# Altium schematic symbol library mySchlib.SchLib: 124 symbols
Pins are listed as number, name and electrical type; pins without a type are passive.

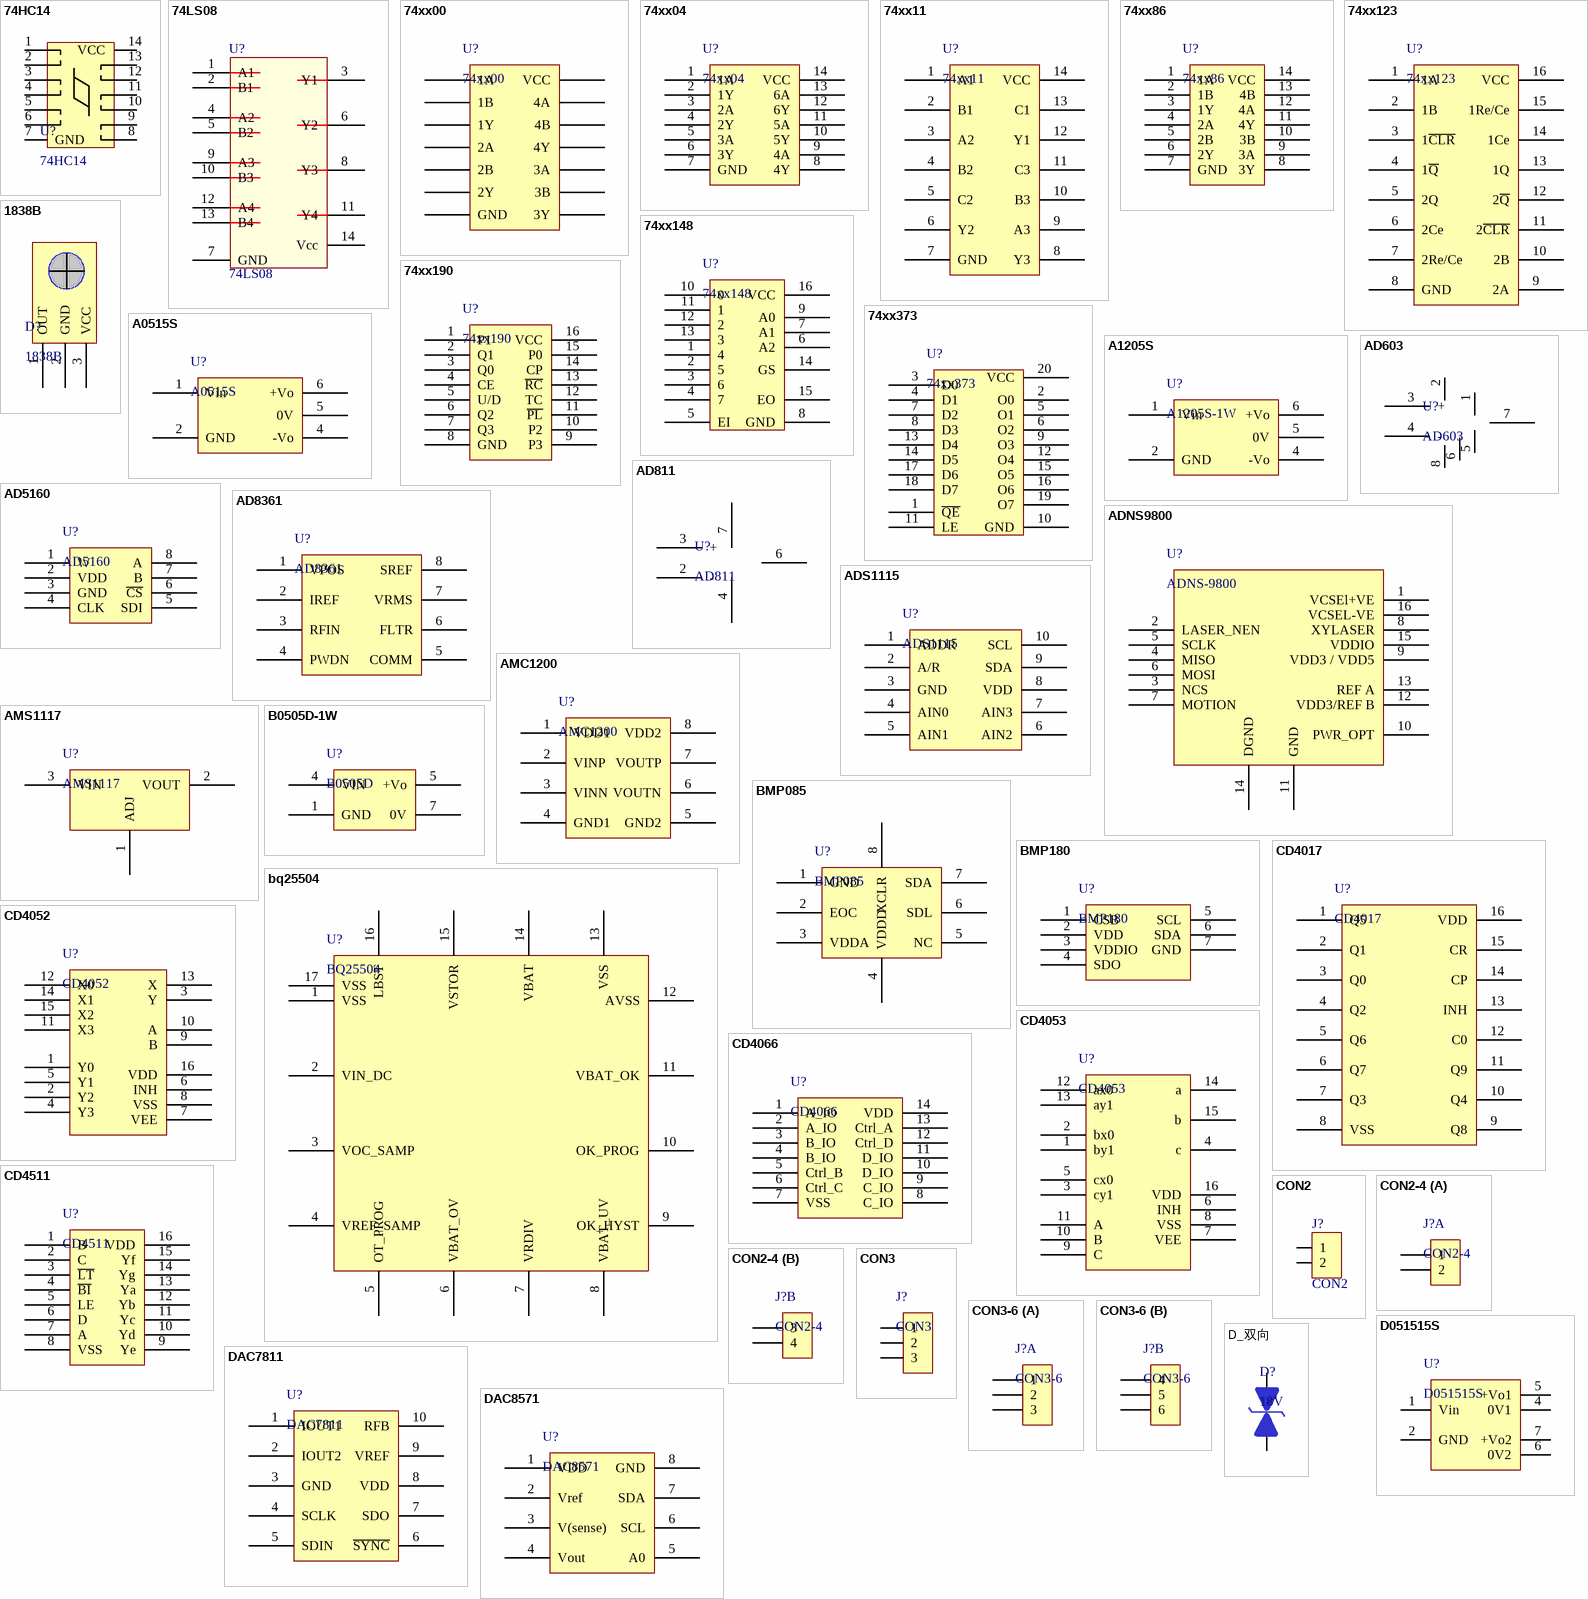
[diagram p0: symbols 74HC14 to DAC8571]

## 74HC14
designator U?
footprint DIP14
pins: 1, 2, 3, 4, 5, 6, 7 GND, 8, 9, 10, 11, 12, 13, 14 VCC

## 74LS08
designator U?
footprint SO-14
pins: 1 A1, 2 B1, 3 Y1, 4 A2, 5 B2, 6 Y2, 7 GND, 8 Y3, 9 A3, 10 B3, 11 Y4, 12 A4, 13 B4, 14 Vcc

## 74xx00
designator U?
footprint DIP14
pins: 1 1A, 2 1B, 3 1Y, 4 2A, 5 2B, 6 2Y, 7 GND, 8 3Y, 9 3B, 10 3A, 11 4Y, 12 4B, 13 4A, 14 VCC

## 74xx04
designator U?
footprint DIP14
pins: 1 1A, 2 1Y, 3 2A, 4 2Y, 5 3A, 6 3Y, 7 GND, 8 4Y, 9 4A, 10 5Y, 11 5A, 12 6Y, 13 6A, 14 VCC

## 74xx11
designator U?
footprint DIP14
pins: 1 A1, 2 B1, 3 A2, 4 B2, 5 C2, 6 Y2, 7 GND, 8 Y3, 9 A3, 10 B3, 11 C3, 12 Y1, 13 C1, 14 VCC

## 74xx86
designator U?
footprint DIP14
pins: 1 1A, 2 1B, 3 1Y, 4 2A, 5 2B, 6 2Y, 7 GND, 8 3Y, 9 3A, 10 3B, 11 4Y, 12 4A, 13 4B, 14 VCC

## 74xx123
designator U?
footprint DIP16
pins: 1 1A, 2 1B, 3 1~{CLR}, 4 1~{Q}, 5 2Q, 6 2Ce, 7 2Re/Ce, 8 GND, 9 2A, 10 2B, 11 2~{CLR}, 12 2~{Q}, 13 1Q, 14 1Ce, 15 1Re/Ce, 16 VCC

## 74xx148
designator U?
footprint DIP16
pins: 1 4, 2 5, 3 6, 4 7, 5 EI, 6 A2, 7 A1, 8 GND, 9 A0, 10 0, 11 1, 12 2, 13 3, 14 GS, 15 EO, 16 VCC

## 74xx190
designator U?
footprint DIP16
pins: 1 P1, 2 Q1, 3 Q0, 4 CE, 5 U/D, 6 Q2, 7 Q3, 8 GND, 9 P3, 10 P2, 11 ~{PL}, 12 TC, 13 ~{RC}, 14 CP, 15 P0, 16 VCC

## 74xx373
designator U?
footprint DIP20
pins: 1 ~{QE}, 2 O0, 3 D0, 4 D1, 5 O1, 6 O2, 7 D2, 8 D3, 9 O3, 10 GND, 11 LE, 12 O4, 13 D4, 14 D5, 15 O5, 16 O6, 17 D6, 18 D7, 19 O7, 20 VCC

## 1838B
designator D?
pins: 1 OUT, 2 GND, 3 VCC

## A0515S
designator U?
pins: 1 Vin, 2 GND, 4 -Vo, 5 0V, 6 +Vo

## A1205S
designator U?, comment A1205S-1W
pins: 1 Vin, 2 GND, 4 -Vo, 5 0V, 6 +Vo

## AD603
designator U?
pins: 1, 2, 3 +, 4 -, 5, 6, 7, 8

## AD811
designator U?
footprint DIP8
pins: 2 -, 3 +, 4, 6, 7

## AD5160
designator U?
pins: 1 W, 2 VDD, 3 GND, 4 CLK, 5 SDI, 6 ~{CS}, 7 B, 8 A

## AD8361
designator U?
pins: 1 VPOS, 2 IREF, 3 RFIN, 4 PWDN, 5 COMM, 6 FLTR, 7 VRMS, 8 SREF

## ADNS9800
designator U?, comment ADNS-9800
pins: 1 VCSEl+VE, 2 LASER_NEN, 3 NCS, 4 MISO, 5 SCLK, 6 MOSI, 7 MOTION, 8 XYLASER, 9 VDD3 / VDD5, 10 PWR_OPT, 11 GND, 12 VDD3/REF B, 13 REF A, 14 DGND, 15 VDDIO, 16 VCSEL-VE

## ADS1115
designator U?
pins: 1 ADDR, 2 A/R, 3 GND, 4 AIN0, 5 AIN1, 6 AIN2, 7 AIN3, 8 VDD, 9 SDA, 10 SCL

## AMC1200
designator U?
pins: 1 VDD1, 2 VINP, 3 VINN, 4 GND1, 5 GND2, 6 VOUTN, 7 VOUTP, 8 VDD2

## AMS1117
designator U?
pins: 1 ADJ, 2 VOUT, 3 VIN

## B0505D-1W
designator U?, comment B0505D
footprint B0505D-1W
pins: 1 GND, 4 VIN, 5 +Vo, 7 0V

## BMP085
designator U?
pins: 1 GND, 2 EOC, 3 VDDA, 4 VDDD, 5 NC, 6 SDL, 7 SDA, 8 XCLR

## BMP180
designator U?
pins: 1 CSB, 2 VDD, 3 VDDIO, 4 SDO, 5 SCL, 6 SDA, 7 GND

## bq25504
designator U?, comment BQ25504
pins: 1 VSS, 2 VIN_DC, 3 VOC_SAMP, 4 VREF_SAMP, 5 OT_PROG, 6 VBAT_OV, 7 VRDIV, 8 VBAT_UV, 9 OK_HYST, 10 OK_PROG, 11 VBAT_OK, 12 AVSS, 13 VSS, 14 VBAT, 15 VSTOR, 16 LBST, 17 VSS

## CD4017
designator U?
pins: 1 Q5, 2 Q1, 3 Q0, 4 Q2, 5 Q6, 6 Q7, 7 Q3, 8 VSS, 9 Q8, 10 Q4, 11 Q9, 12 C0, 13 INH, 14 CP, 15 CR, 16 VDD

## CD4052
designator U?
pins: 1 Y0, 2 Y2, 3 Y, 4 Y3, 5 Y1, 6 INH, 7 VEE, 8 VSS, 9 B, 10 A, 11 X3, 12 X0, 13 X, 14 X1, 15 X2, 16 VDD

## CD4053
designator U?
pins: 1 by1, 2 bx0, 3 cy1, 4 c, 5 cx0, 6 INH, 7 VEE, 8 VSS, 9 C, 10 B, 11 A, 12 ax0, 13 ay1, 14 a, 15 b, 16 VDD

## CD4066
designator U?
footprint DIP14
pins: 1 A_IO, 2 A_IO, 3 B_IO, 4 B_IO, 5 Ctrl_B, 6 Ctrl_C, 7 VSS, 8 C_IO, 9 C_IO, 10 D_IO, 11 D_IO, 12 Ctrl_D, 13 Ctrl_A, 14 VDD

## CD4511
designator U?
footprint DIP8
pins: 1 B, 2 C, 3 ~{LT}, 4 ~{BI}, 5 LE, 6 D, 7 A, 8 VSS, 9 Ye, 10 Yd, 11 Yc, 12 Yb, 13 Ya, 14 Yg, 15 Yf, 16 VDD

## CON2
designator J?
Connector
footprint HEADER2
pins: 1, 2
2 alternate drawings of the same symbol

## CON2-4
designator J?
footprint KF12EZR-4
part A pins: 1, 2
part B pins: 3, 4

## CON3
designator J?
pins: 1, 2, 3

## CON3-6
designator J?
footprint KF12EZR-6
part A pins: 1, 2, 3
part B pins: 4, 5, 6

## D051515S
designator U?
pins: 1 Vin, 2 GND, 4 0V1, 5 +Vo1, 6 0V2, 7 +Vo2

## D_双向
designator D?, comment 18V
pins: 1, 2

## DAC7811
designator U?
footprint DIP10
pins: 1 IOUT1, 2 IOUT2, 3 GND, 4 SCLK, 5 SDIN, 6 ~{SYNC}, 7 SDO, 8 VDD, 9 VREF, 10 RFB

## DAC8571
designator U?
pins: 1 VDD, 2 Vref, 3 V(sense), 4 Vout, 5 A0, 6 SCL, 7 SDA, 8 GND

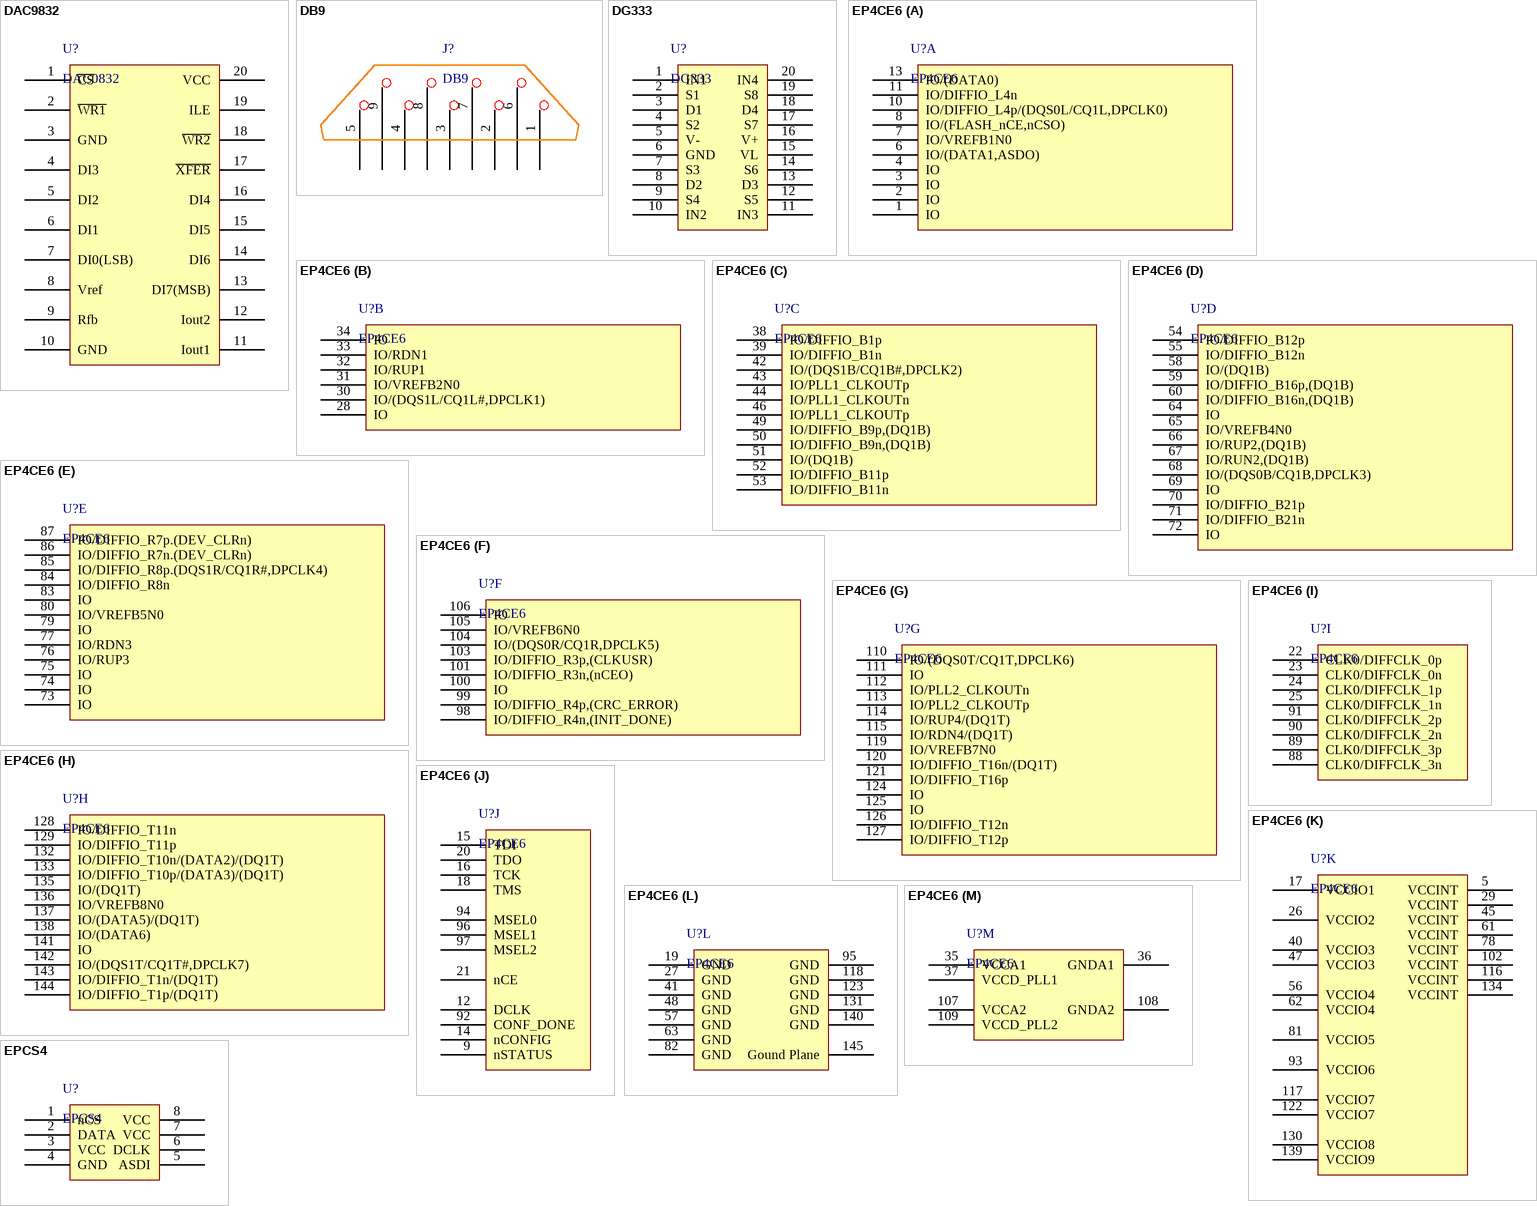
[diagram p1: symbols DAC9832 to EPCS4]

## DAC9832
designator U?, comment DAC0832
pins: 1 ~{CS}, 2 ~{WR1}, 3 GND, 4 DI3, 5 DI2, 6 DI1, 7 DI0(LSB), 8 Vref, 9 Rfb, 10 GND, 11 Iout1, 12 Iout2, 13 DI7(MSB), 14 DI6, 15 DI5, 16 DI4, 17 ~{XFER}, 18 ~{WR2}, 19 ILE, 20 VCC

## DB9
designator J?
pins: 1, 2, 3, 4, 5, 6, 7, 8, 9

## DG333
designator U?
pins: 1 IN1, 2 S1, 3 D1, 4 S2, 5 V-, 6 GND, 7 S3, 8 D2, 9 S4, 10 IN2, 11 IN3, 12 S5, 13 D3, 14 S6, 15 VL, 16 V+, 17 S7, 18 D4, 19 S8, 20 IN4

## EP4CE6
designator U?
footprint LQFP144 (TSQFP, 144-Leads, Body 22.2x22.2mm (max), Pitch 0.50mm,)
part A pins: 1 IO, 2 IO, 3 IO, 4 IO, 6 IO/(DATA1,ASDO), 7 IO/VREFB1N0, 8 IO/(FLASH_nCE,nCSO), 10 IO/DIFFIO_L4p/(DQS0L/CQ1L,DPCLK0), 11 IO/DIFFIO_L4n, 13 IO/(DATA0)
part B pins: 28 IO, 30 IO/(DQS1L/CQ1L#,DPCLK1), 31 IO/VREFB2N0, 32 IO/RUP1, 33 IO/RDN1, 34 IO
part C pins: 38 IO/DIFFIO_B1p, 39 IO/DIFFIO_B1n, 42 IO/(DQS1B/CQ1B#,DPCLK2), 43 IO/PLL1_CLKOUTp, 44 IO/PLL1_CLKOUTn, 46 IO/PLL1_CLKOUTp, 49 IO/DIFFIO_B9p,(DQ1B), 50 IO/DIFFIO_B9n,(DQ1B), 51 IO/(DQ1B), 52 IO/DIFFIO_B11p, 53 IO/DIFFIO_B11n
part D pins: 54 IO/DIFFIO_B12p, 55 IO/DIFFIO_B12n, 58 IO/(DQ1B), 59 IO/DIFFIO_B16p,(DQ1B), 60 IO/DIFFIO_B16n,(DQ1B), 64 IO, 65 IO/VREFB4N0, 66 IO/RUP2,(DQ1B), 67 IO/RUN2,(DQ1B), 68 IO/(DQS0B/CQ1B,DPCLK3), 69 IO, 70 IO/DIFFIO_B21p, 71 IO/DIFFIO_B21n, 72 IO
part E pins: 73 IO, 74 IO, 75 IO, 76 IO/RUP3, 77 IO/RDN3, 79 IO, 80 IO/VREFB5N0, 83 IO, 84 IO/DIFFIO_R8n, 85 IO/DIFFIO_R8p.(DQS1R/CQ1R#,DPCLK4), 86 IO/DIFFIO_R7n.(DEV_CLRn), 87 IO/DIFFIO_R7p.(DEV_CLRn)
part F pins: 98 IO/DIFFIO_R4n,(INIT_DONE), 99 IO/DIFFIO_R4p,(CRC_ERROR), 100 IO, 101 IO/DIFFIO_R3n,(nCEO), 103 IO/DIFFIO_R3p,(CLKUSR), 104 IO/(DQS0R/CQ1R,DPCLK5), 105 IO/VREFB6N0, 106 IO
part G pins: 110 IO/(DQS0T/CQ1T,DPCLK6), 111 IO, 112 IO/PLL2_CLKOUTn, 113 IO/PLL2_CLKOUTp, 114 IO/RUP4/(DQ1T), 115 IO/RDN4/(DQ1T), 119 IO/VREFB7N0, 120 IO/DIFFIO_T16n/(DQ1T), 121 IO/DIFFIO_T16p, 124 IO, 125 IO, 126 IO/DIFFIO_T12n, 127 IO/DIFFIO_T12p
part H pins: 128 IO/DIFFIO_T11n, 129 IO/DIFFIO_T11p, 132 IO/DIFFIO_T10n/(DATA2)/(DQ1T), 133 IO/DIFFIO_T10p/(DATA3)/(DQ1T), 135 IO/(DQ1T), 136 IO/VREFB8N0, 137 IO/(DATA5)/(DQ1T), 138 IO/(DATA6), 141 IO, 142 IO/(DQS1T/CQ1T#,DPCLK7), 143 IO/DIFFIO_T1n/(DQ1T), 144 IO/DIFFIO_T1p/(DQ1T)
part I pins: 22 CLK0/DIFFCLK_0p, 23 CLK0/DIFFCLK_0n, 24 CLK0/DIFFCLK_1p, 25 CLK0/DIFFCLK_1n, 88 CLK0/DIFFCLK_3n, 89 CLK0/DIFFCLK_3p, 90 CLK0/DIFFCLK_2n, 91 CLK0/DIFFCLK_2p
part J pins: 9 nSTATUS, 12 DCLK, 14 nCONFIG, 15 TDI, 16 TCK, 18 TMS, 20 TDO, 21 nCE, 92 CONF_DONE, 94 MSEL0, 96 MSEL1, 97 MSEL2
part K pins: 5 VCCINT, 17 VCCIO1, 26 VCCIO2, 29 VCCINT, 40 VCCIO3, 45 VCCINT, 47 VCCIO3, 56 VCCIO4, 61 VCCINT, 62 VCCIO4, 78 VCCINT, 81 VCCIO5, 93 VCCIO6, 102 VCCINT, 116 VCCINT, 117 VCCIO7, 122 VCCIO7, 130 VCCIO8, 134 VCCINT, 139 VCCIO9
part L pins: 19 GND, 27 GND, 41 GND, 48 GND, 57 GND, 63 GND, 82 GND, 95 GND, 118 GND, 123 GND, 131 GND, 140 GND, 145 Gound Plane
part M pins: 35 VCCA1, 36 GNDA1, 37 VCCD_PLL1, 107 VCCA2, 108 GNDA2, 109 VCCD_PLL2

## EPCS4
designator U?
footprint SO-8
pins: 1 nCS, 2 DATA, 3 VCC, 4 GND, 5 ASDI, 6 DCLK, 7 VCC, 8 VCC

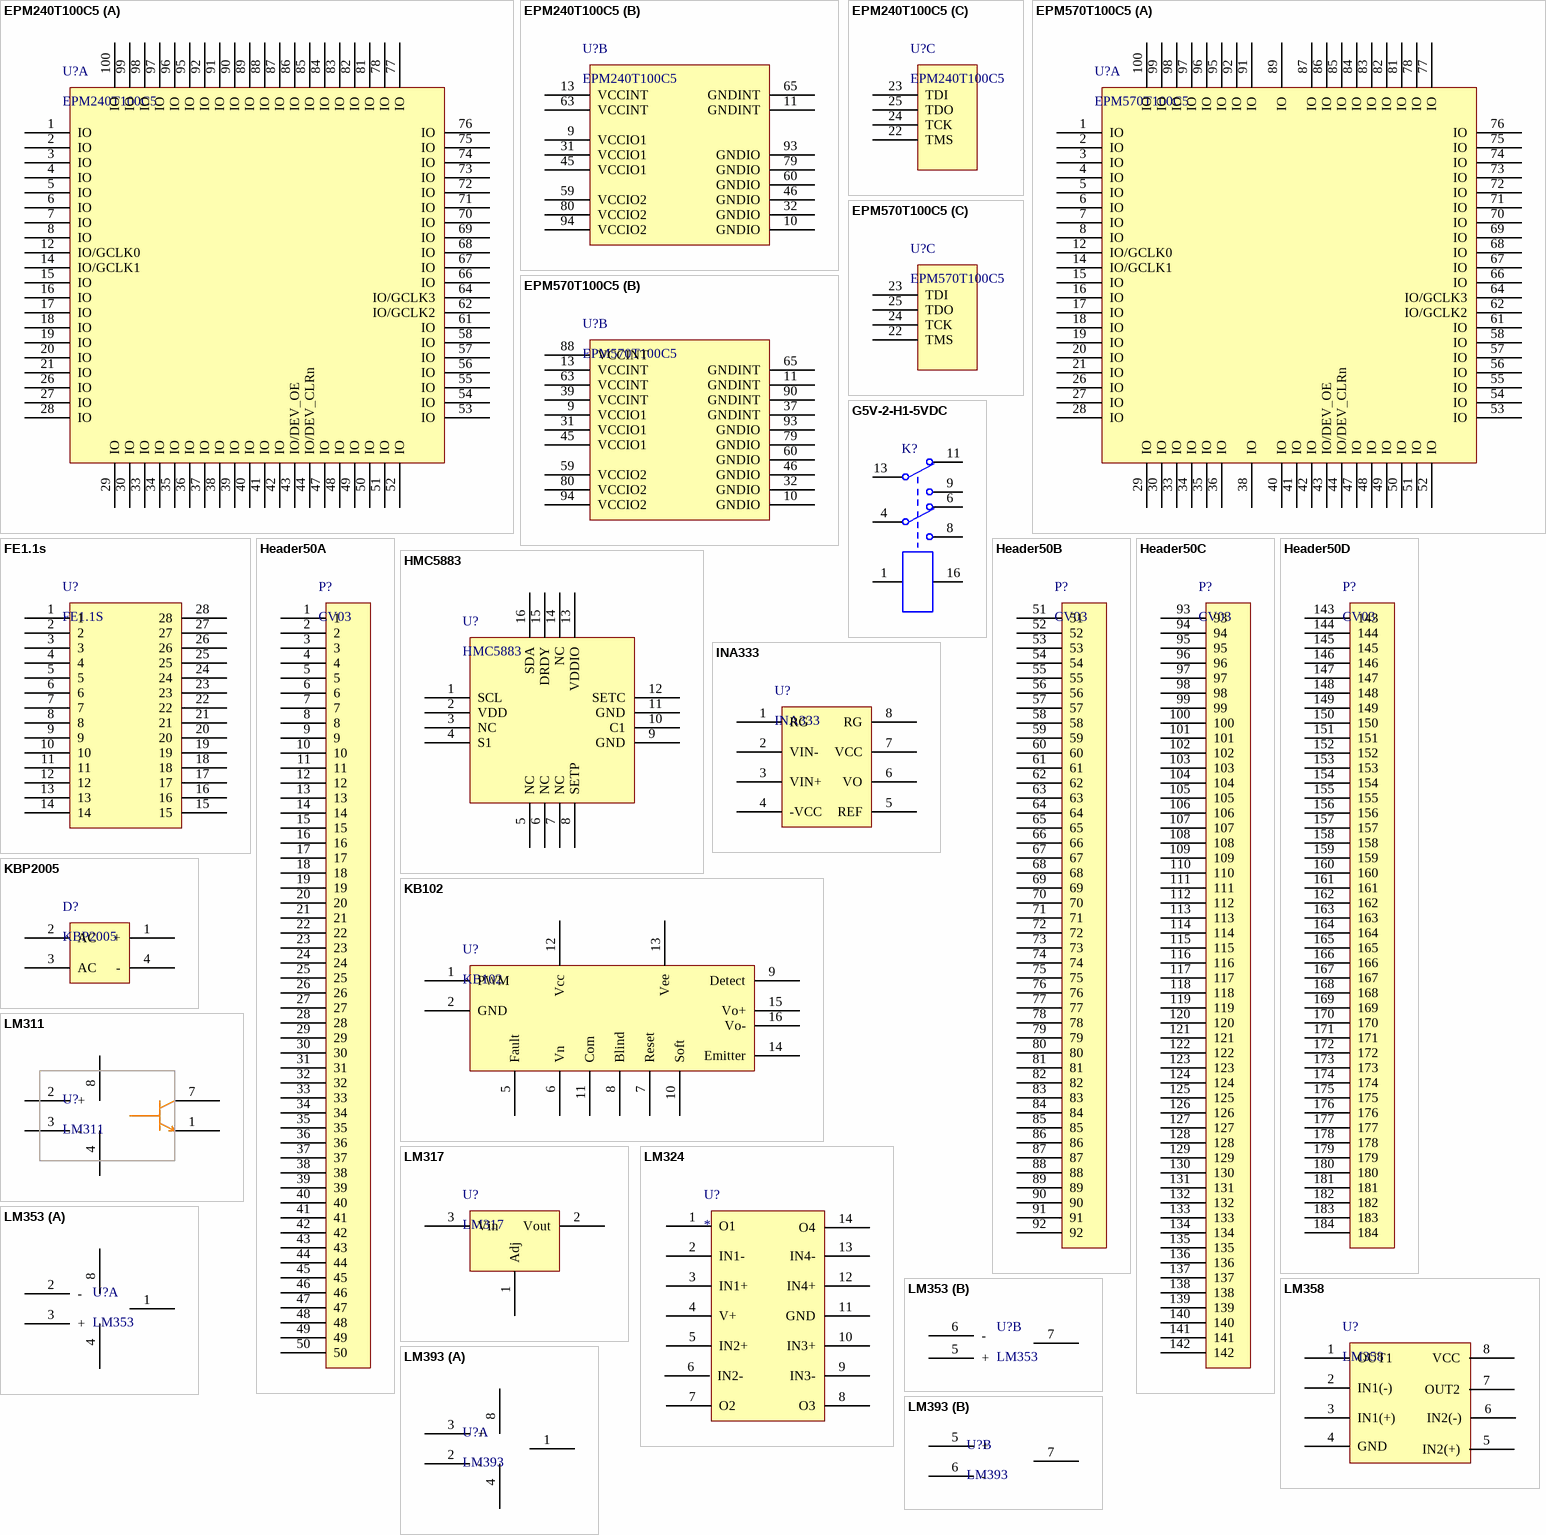
[diagram p2: symbols EPM240T100C5 to LM393]

## EPM240T100C5
designator U?
part A pins: 1 IO, 2 IO, 3 IO, 4 IO, 5 IO, 6 IO, 7 IO, 8 IO, 12 IO/GCLK0, 14 IO/GCLK1, 15 IO, 16 IO, 17 IO, 18 IO, 19 IO, 20 IO, 21 IO, 26 IO, 27 IO, 28 IO, 29 IO, 30 IO, 33 IO, 34 IO, 35 IO, 36 IO, 37 IO, 38 IO, 39 IO, 40 IO, 41 IO, 42 IO, 43 IO/DEV_OE, 44 IO/DEV_CLRn, 47 IO, 48 IO, 49 IO, 50 IO, 51 IO, 52 IO, 53 IO, 54 IO, 55 IO, 56 IO, 57 IO, 58 IO, 61 IO, 62 IO/GCLK2, 64 IO/GCLK3, 66 IO, 67 IO, 68 IO, 69 IO, 70 IO, 71 IO, 72 IO, 73 IO, 74 IO, 75 IO, 76 IO, 77 IO, 78 IO, 81 IO, 82 IO, 83 IO, 84 IO, 85 IO, 86 IO, 87 IO, 88 IO, 89 IO, 90 IO, 91 IO, 92 IO, 95 IO, 96 IO, 97 IO, 98 IO, 99 IO, 100 IO
part B pins: 9 VCCIO1, 10 GNDIO, 11 GNDINT, 13 VCCINT, 31 VCCIO1, 32 GNDIO, 45 VCCIO1, 46 GNDIO, 59 VCCIO2, 60 GNDIO, 63 VCCINT, 65 GNDINT, 79 GNDIO, 80 VCCIO2, 93 GNDIO, 94 VCCIO2
part C pins: 22 TMS, 23 TDI, 24 TCK, 25 TDO

## EPM570T100C5
designator U?
part A pins: 1 IO, 2 IO, 3 IO, 4 IO, 5 IO, 6 IO, 7 IO, 8 IO, 12 IO/GCLK0, 14 IO/GCLK1, 15 IO, 16 IO, 17 IO, 18 IO, 19 IO, 20 IO, 21 IO, 26 IO, 27 IO, 28 IO, 29 IO, 30 IO, 33 IO, 34 IO, 35 IO, 36 IO, 38 IO, 40 IO, 41 IO, 42 IO, 43 IO/DEV_OE, 44 IO/DEV_CLRn, 47 IO, 48 IO, 49 IO, 50 IO, 51 IO, 52 IO, 53 IO, 54 IO, 55 IO, 56 IO, 57 IO, 58 IO, 61 IO, 62 IO/GCLK2, 64 IO/GCLK3, 66 IO, 67 IO, 68 IO, 69 IO, 70 IO, 71 IO, 72 IO, 73 IO, 74 IO, 75 IO, 76 IO, 77 IO, 78 IO, 81 IO, 82 IO, 83 IO, 84 IO, 85 IO, 86 IO, 87 IO, 89 IO, 91 IO, 92 IO, 95 IO, 96 IO, 97 IO, 98 IO, 99 IO, 100 IO
part B pins: 9 VCCIO1, 10 GNDIO, 11 GNDINT, 13 VCCINT, 31 VCCIO1, 32 GNDIO, 37 GNDINT, 39 VCCINT, 45 VCCIO1, 46 GNDIO, 59 VCCIO2, 60 GNDIO, 63 VCCINT, 65 GNDINT, 79 GNDIO, 80 VCCIO2, 88 VCCINT, 90 GNDINT, 93 GNDIO, 94 VCCIO2
part C pins: 22 TMS, 23 TDI, 24 TCK, 25 TDO

## FE1.1s
designator U?, comment FE1.1S
pins: 1, 2, 3, 4, 5, 6, 7, 8, 9, 10, 11, 12, 13, 14, 15, 16, 17, 18, 19, 20, 21, 22, 23, 24, 25, 26, 27, 28

## G5V-2-H1-5VDC
designator K?  (value not drawn)
Published: 24-Mar-1999; LatestRevisionDate: 17-Jul-2002; LatestRevisionNote: Re-released for DXP Platform.; PackageReference: DIP-P8; Publisher: Altium Limited
pins: 1, 4, 6, 8, 9, 11, 13, 16

## Header50A
designator P?, comment CV03
pins: 1, 2, 3, 4, 5, 6, 7, 8, 9, 10, 11, 12, 13, 14, 15, 16, 17, 18, 19, 20, 21, 22, 23, 24, 25, 26, 27, 28, 29, 30, 31, 32, 33, 34, 35, 36, 37, 38, 39, 40, 41, 42, 43, 44, 45, 46, 47, 48, 49, 50

## Header50B
designator P?, comment CV03
pins: 51, 52, 53, 54, 55, 56, 57, 58, 59, 60, 61, 62, 63, 64, 65, 66, 67, 68, 69, 70, 71, 72, 73, 74, 75, 76, 77, 78, 79, 80, 81, 82, 83, 84, 85, 86, 87, 88, 89, 90, 91, 92

## Header50C
designator P?, comment CV03
pins: 93, 94, 95, 96, 97, 98, 99, 100, 101, 102, 103, 104, 105, 106, 107, 108, 109, 110, 111, 112, 113, 114, 115, 116, 117, 118, 119, 120, 121, 122, 123, 124, 125, 126, 127, 128, 129, 130, 131, 132, 133, 134, 135, 136, 137, 138, 139, 140, 141, 142

## Header50D
designator P?, comment CV03
pins: 143, 144, 145, 146, 147, 148, 149, 150, 151, 152, 153, 154, 155, 156, 157, 158, 159, 160, 161, 162, 163, 164, 165, 166, 167, 168, 169, 170, 171, 172, 173, 174, 175, 176, 177, 178, 179, 180, 181, 182, 183, 184

## HMC5883
designator U?
pins: 1 SCL, 2 VDD, 3 NC, 4 S1, 5 NC, 6 NC, 7 NC, 8 SETP, 9 GND, 10 C1, 11 GND, 12 SETC, 13 VDDIO, 14 NC, 15 DRDY, 16 SDA

## INA333
designator U?
pins: 1 RG, 2 VIN-, 3 VIN+, 4 -VCC, 5 REF, 6 VO, 7 VCC, 8 RG

## KB102
designator U?
pins: 1 PWM, 2 GND, 5 Fault, 6 Vn, 7 Reset, 8 Blind, 9 Detect, 10 Soft, 11 Com, 12 Vcc, 13 Vee, 14 Emitter, 15 Vo+, 16 Vo-

## KBP2005
designator D?
pins: 1 +, 2 AC, 3 AC, 4 -

## LM311
designator U?
footprint DIP8
pins: 1 EO, 2 +, 3 -, 4, 7 CO, 8

## LM317
designator U?
pins: 1 Adj, 2 Vout, 3 Vin

## LM324
designator U?
pins: 1 O1, 2 IN1-, 3 IN1+, 4 V+, 5 IN2+, 6 IN2-, 7 O2, 8 O3, 9 IN3-, 10 IN3+, 11 GND, 12 IN4+, 13 IN4-, 14 O4

## LM353
designator U?
footprint DIP-8 (DIP; 8 Leads; Row Spacing 7.62 mm; Pitch 2.54 mm)
part A pins: 1, 2 -, 3 +, 4, 8
part B pins: 5 +, 6 -, 7

## LM358
designator U?
footprint DIP-P8/E10
pins: 1 OUT1, 2 IN1(-), 3 IN1(+), 4 GND, 5 IN2(+), 6 IN2(-), 7 OUT2, 8 VCC

## LM393
designator U?
part A pins: 1 O, 2 -, 3 +, 4 GND, 8 VCC
part B pins: 5 +, 6 -, 7 O

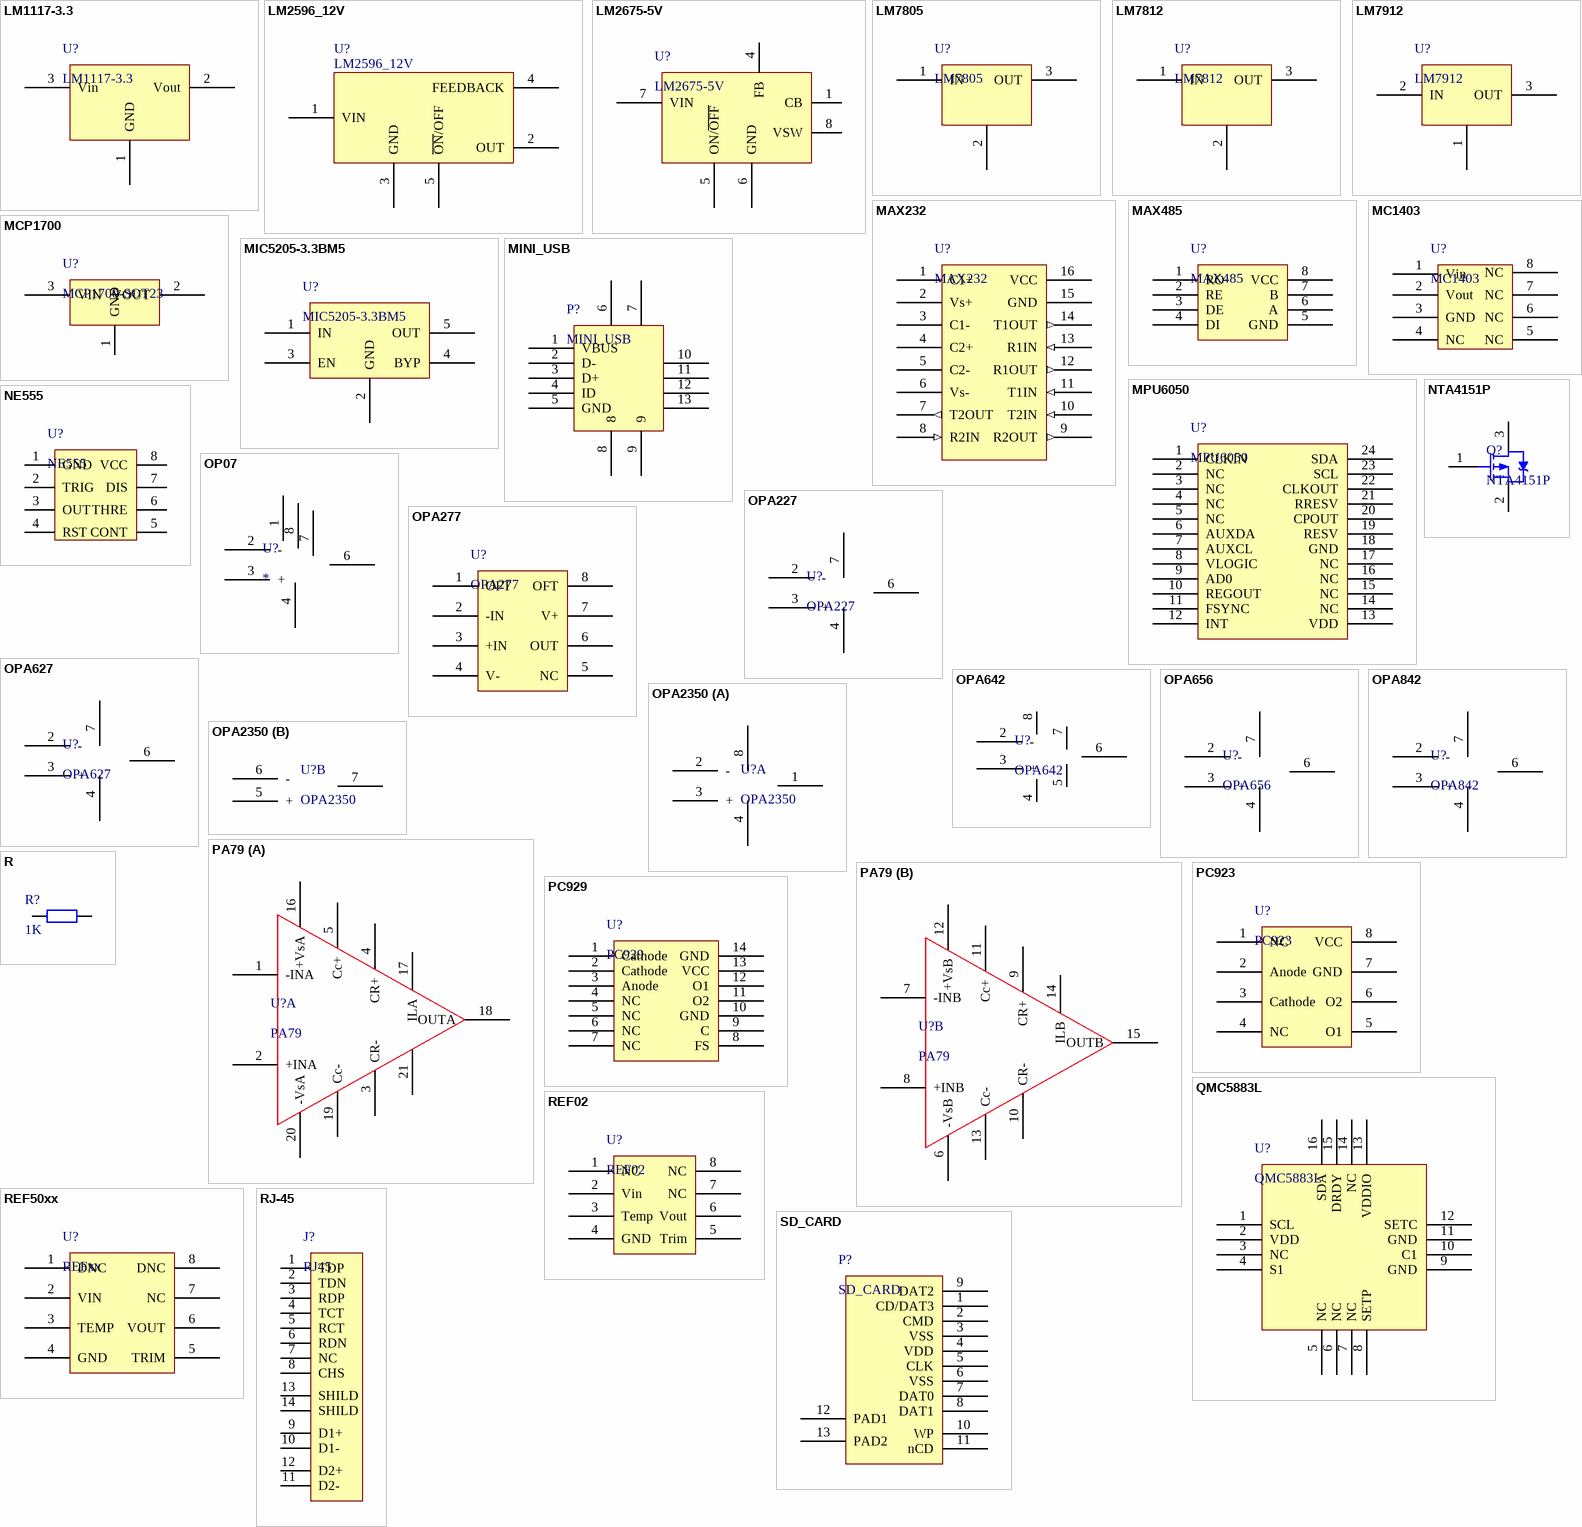
[diagram p3: symbols LM1117-3.3 to SD_CARD]

## LM1117-3.3
designator U?
pins: 1 GND, 2 Vout, 3 Vin

## LM2596_12V
designator U?
footprint TO263
pins: 1 VIN, 2 OUT, 3 GND, 4 FEEDBACK, 5 ~{ON}/OFF

## LM2675-5V
designator U?
pins: 1 CB, 4 FB, 5 ON/~{OFF}, 6 GND, 7 VIN, 8 VSW

## LM7805
designator U?
pins: 1 IN, 2 GND, 3 OUT

## LM7812
designator U?
pins: 1 IN, 2 GND, 3 OUT

## LM7912
designator U?
pins: 1 GND, 2 IN, 3 OUT

## MAX232
designator U?
pins: 1 C1+, 2 Vs+, 3 C1-, 4 C2+, 5 C2-, 6 Vs-, 7 T2OUT (out), 8 R2IN (in), 9 R2OUT (out), 10 T2IN (in), 11 T1IN (in), 12 R1OUT (out), 13 R1IN (in), 14 T1OUT (out), 15 GND, 16 VCC

## MAX485
designator U?
pins: 1 RO, 2 RE, 3 DE, 4 DI, 5 GND, 6 A, 7 B, 8 VCC

## MC1403
designator U?
pins: 1 Vin, 2 Vout, 3 GND, 4 NC, 5 NC, 6 NC, 7 NC, 8 NC

## MCP1700
designator U?, comment MCP1700-SOT23
pins: 1 GND, 2 VOUT, 3 VIN

## MIC5205-3.3BM5
designator U?
pins: 1 IN, 2 GND, 3 EN, 4 BYP, 5 OUT

## MINI_USB
designator P?
pins: 1 VBUS, 2 D-, 3 D+, 4 ID, 5 GND, 6, 7, 8, 9, 10, 11, 12, 13

## MPU6050
designator U?
pins: 1 CLKIN, 2 NC, 3 NC, 4 NC, 5 NC, 6 AUXDA, 7 AUXCL, 8 VLOGIC, 9 AD0, 10 REGOUT, 11 FSYNC, 12 INT, 13 VDD, 14 NC, 15 NC, 16 NC, 17 NC, 18 GND, 19 RESV, 20 CPOUT, 21 RRESV, 22 CLKOUT, 23 SCL, 24 SDA

## NE555
designator U?
footprint DIP8
pins: 1 GND, 2 TRIG, 3 OUT, 4 RST, 5       CONT, 6   THRE, 7       DIS, 8     VCC

## NTA4151P
designator Q?
pins: 1 G, 2 S, 3 D

## OP07
designator U?
footprint DIP8
pins: 1, 2 -, 3 +, 4, 6, 7, 8

## OPA227
designator U?
footprint SO-8
pins: 2 -, 3 +, 4 v-, 6 OUT, 7 v+

## OPA277
designator U?
footprint DIP8
pins: 1 OFT, 2 -IN, 3 +IN, 4 V-, 5 NC, 6 OUT, 7 V+, 8 OFT

## OPA627
designator U?
footprint SO-8
pins: 2 -, 3 +, 4 -Vs, 6 OUTPUT, 7 +Vs

## OPA642
designator U?
footprint DIP-P8/E10
pins: 2 -, 3 +, 4, 5 10, 6, 7 9, 8

## OPA656
designator U?
pins: 2 -, 3 +, 4 -VCC, 6, 7 VCC

## OPA842
designator U?
footprint SO-8
pins: 2 -, 3 +, 4 -Vs, 6 OUT, 7 +Vs

## OPA2350
designator U?
part A pins: 1, 2 -, 3 +, 4, 8
part B pins: 5 +, 6 -, 7

## PA79
designator U?
footprint PSOP_20
part A pins: 1 -INA, 2 +INA, 3 CR-, 4 CR+, 5 Cc+, 16 +VsA, 17 ILA, 18 OUTA, 19 Cc-, 20 -VsA, 21
part B pins: 6 -VsB, 7 -INB, 8 +INB, 9 CR+, 10 CR-, 11 Cc+, 12 +VsB, 13 Cc-, 14 ILB, 15 OUTB

## PC923
designator U?
pins: 1 NC, 2 Anode, 3 Cathode, 4 NC, 5 O1, 6 O2, 7 GND, 8 VCC

## PC929
designator U?
pins: 1 Cathode, 2 Cathode, 3 Anode, 4 NC, 5 NC, 6 NC, 7 NC, 8 FS, 9 C, 10 GND, 11 O2, 12 O1, 13 VCC, 14 GND

## QMC5883L
designator U?
pins: 1 SCL, 2 VDD, 3 NC, 4 S1, 5 NC, 6 NC, 7 NC, 8 SETP, 9 GND, 10 C1, 11 GND, 12 SETC, 13 VDDIO, 14 NC, 15 DRDY, 16 SDA

## R
designator R?, comment 1K
footprint 0805R
pins: 1, 2

## REF02
designator U?
pins: 1 NC, 2 Vin, 3 Temp, 4 GND, 5 Trim, 6 Vout, 7 NC, 8 NC

## REF50xx
designator U?, comment REFxx
pins: 1 DNC, 2 VIN, 3 TEMP, 4 GND, 5 TRIM, 6 VOUT, 7 NC, 8 DNC

## RJ-45
designator J?, comment RJ45
pins: 1 TDP, 2 TDN, 3 RDP, 4 TCT, 5 RCT, 6 RDN, 7 NC, 8 CHS, 9 D1+, 10 D1-, 11 D2-, 12 D2+, 13 SHILD, 14 SHILD

## SD_CARD
designator P?
pins: 1 CD/DAT3, 2 CMD, 3 VSS, 4 VDD, 5 CLK, 6 VSS, 7 DAT0, 8 DAT1, 9 DAT2, 10 WP, 11 nCD, 12 PAD1, 13 PAD2

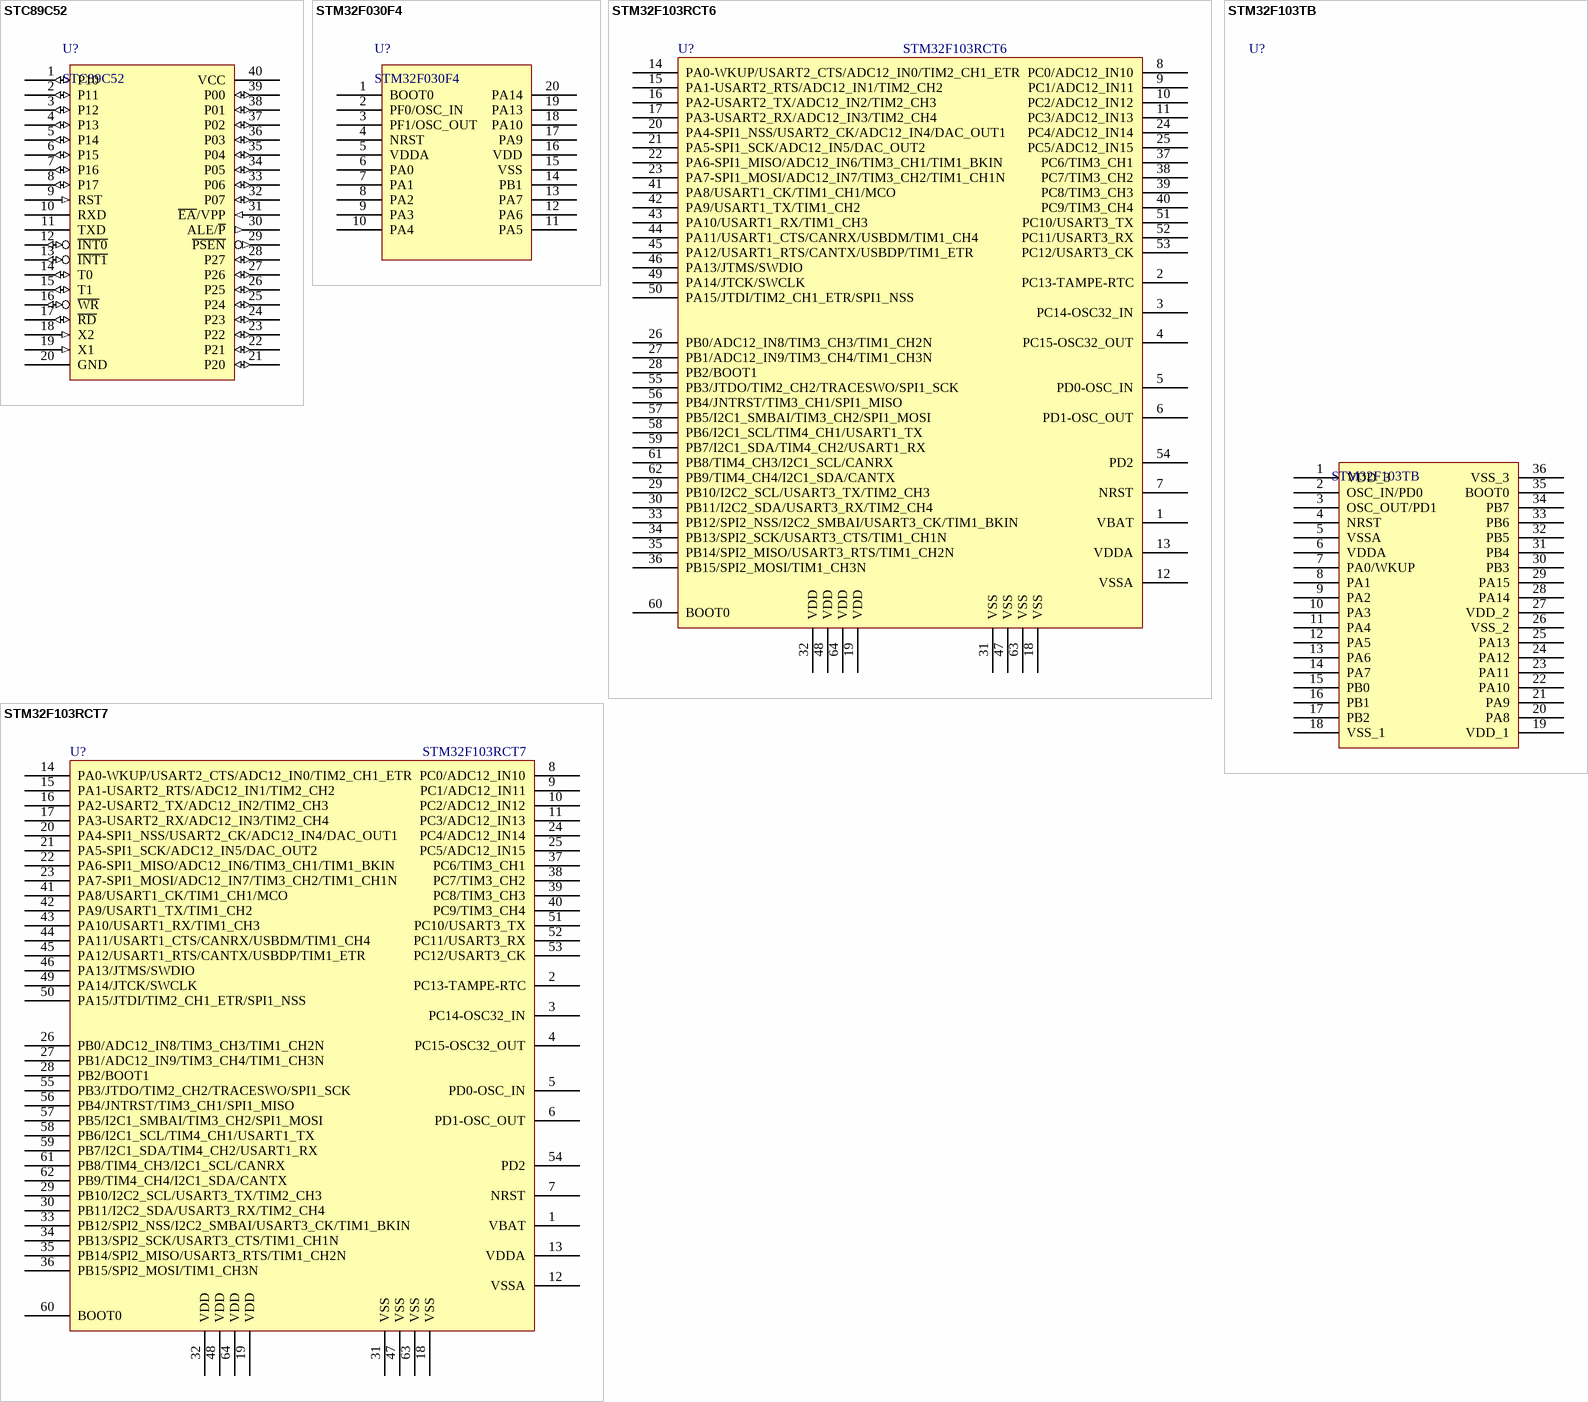
[diagram p4: symbols STC89C52 to STM32F103TB]

## STC89C52
designator U?
pins: 1 P10 (io), 2 P11 (io), 3 P12 (io), 4 P13 (io), 5 P14 (io), 6 P15 (io), 7 P16 (io), 8 P17 (io), 9 RST (in), 10 RXD, 11 TXD, 12 ~{INT0} (io), 13 ~{INT1} (io), 14 T0 (io), 15 T1 (io), 16 ~{WR} (io), 17 ~{RD} (io), 18 X2 (in), 19 X1 (in), 20 GND, 21 P20 (io), 22 P21 (io), 23 P22 (io), 24 P23 (io), 25 P24 (io), 26 P25 (io), 27 P26 (io), 28 P27 (io), 29 ~{PSEN} (out), 30 ALE/~{P} (out), 31 ~{EA}/VPP (in), 32 P07 (io), 33 P06 (io), 34 P05 (io), 35 P04 (io), 36 P03 (io), 37 P02 (io), 38 P01 (io), 39 P00 (io), 40 VCC

## STM32F030F4
designator U?
pins: 1 BOOT0, 2 PF0/OSC_IN, 3 PF1/OSC_OUT, 4 NRST, 5 VDDA, 6 PA0, 7 PA1, 8 PA2, 9 PA3, 10 PA4, 11 PA5, 12 PA6, 13 PA7, 14 PB1, 15 VSS, 16 VDD, 17 PA9, 18 PA10, 19 PA13, 20 PA14

## STM32F103RCT6
designator U?
footprint TQFP64_C
pins: 1 VBAT, 2 PC13-TAMPE-RTC, 3 PC14-OSC32_IN, 4 PC15-OSC32_OUT, 5 PD0-OSC_IN, 6 PD1-OSC_OUT, 7 NRST, 8 PC0/ADC12_IN10, 9 PC1/ADC12_IN11, 10 PC2/ADC12_IN12, 11 PC3/ADC12_IN13, 12 VSSA, 13 VDDA, 14 PA0-WKUP/USART2_CTS/ADC12_IN0/TIM2_CH1_ETR, 15 PA1-USART2_RTS/ADC12_IN1/TIM2_CH2, 16 PA2-USART2_TX/ADC12_IN2/TIM2_CH3, 17 PA3-USART2_RX/ADC12_IN3/TIM2_CH4, 18 VSS, 19 VDD, 20 PA4-SPI1_NSS/USART2_CK/ADC12_IN4/DAC_OUT1, 21 PA5-SPI1_SCK/ADC12_IN5/DAC_OUT2, 22 PA6-SPI1_MISO/ADC12_IN6/TIM3_CH1/TIM1_BKIN, 23 PA7-SPI1_MOSI/ADC12_IN7/TIM3_CH2/TIM1_CH1N, 24 PC4/ADC12_IN14, 25 PC5/ADC12_IN15, 26 PB0/ADC12_IN8/TIM3_CH3/TIM1_CH2N, 27 PB1/ADC12_IN9/TIM3_CH4/TIM1_CH3N, 28 PB2/BOOT1, 29 PB10/I2C2_SCL/USART3_TX/TIM2_CH3, 30 PB11/I2C2_SDA/USART3_RX/TIM2_CH4, 31 VSS, 32 VDD, 33 PB12/SPI2_NSS/I2C2_SMBAI/USART3_CK/TIM1_BKIN, 34 PB13/SPI2_SCK/USART3_CTS/TIM1_CH1N, 35 PB14/SPI2_MISO/USART3_RTS/TIM1_CH2N, 36 PB15/SPI2_MOSI/TIM1_CH3N, 37 PC6/TIM3_CH1, 38 PC7/TIM3_CH2, 39 PC8/TIM3_CH3, 40 PC9/TIM3_CH4, 41 PA8/USART1_CK/TIM1_CH1/MCO, 42 PA9/USART1_TX/TIM1_CH2, 43 PA10/USART1_RX/TIM1_CH3, 44 PA11/USART1_CTS/CANRX/USBDM/TIM1_CH4, 45 PA12/USART1_RTS/CANTX/USBDP/TIM1_ETR, 46 PA13/JTMS/SWDIO, 47 VSS, 48 VDD, 49 PA14/JTCK/SWCLK, 50 PA15/JTDI/TIM2_CH1_ETR/SPI1_NSS, 51 PC10/USART3_TX, 52 PC11/USART3_RX, 53 PC12/USART3_CK, 54 PD2, 55 PB3/JTDO/TIM2_CH2/TRACESWO/SPI1_SCK, 56 PB4/JNTRST/TIM3_CH1/SPI1_MISO, 57 PB5/I2C1_SMBAI/TIM3_CH2/SPI1_MOSI, 58 PB6/I2C1_SCL/TIM4_CH1/USART1_TX, 59 PB7/I2C1_SDA/TIM4_CH2/USART1_RX, 60 BOOT0, 61 PB8/TIM4_CH3/I2C1_SCL/CANRX, 62 PB9/TIM4_CH4/I2C1_SDA/CANTX, 63 VSS, 64 VDD

## STM32F103RCT7
designator U?
footprint TQFP64_C
pins: 1 VBAT, 2 PC13-TAMPE-RTC, 3 PC14-OSC32_IN, 4 PC15-OSC32_OUT, 5 PD0-OSC_IN, 6 PD1-OSC_OUT, 7 NRST, 8 PC0/ADC12_IN10, 9 PC1/ADC12_IN11, 10 PC2/ADC12_IN12, 11 PC3/ADC12_IN13, 12 VSSA, 13 VDDA, 14 PA0-WKUP/USART2_CTS/ADC12_IN0/TIM2_CH1_ETR, 15 PA1-USART2_RTS/ADC12_IN1/TIM2_CH2, 16 PA2-USART2_TX/ADC12_IN2/TIM2_CH3, 17 PA3-USART2_RX/ADC12_IN3/TIM2_CH4, 18 VSS, 19 VDD, 20 PA4-SPI1_NSS/USART2_CK/ADC12_IN4/DAC_OUT1, 21 PA5-SPI1_SCK/ADC12_IN5/DAC_OUT2, 22 PA6-SPI1_MISO/ADC12_IN6/TIM3_CH1/TIM1_BKIN, 23 PA7-SPI1_MOSI/ADC12_IN7/TIM3_CH2/TIM1_CH1N, 24 PC4/ADC12_IN14, 25 PC5/ADC12_IN15, 26 PB0/ADC12_IN8/TIM3_CH3/TIM1_CH2N, 27 PB1/ADC12_IN9/TIM3_CH4/TIM1_CH3N, 28 PB2/BOOT1, 29 PB10/I2C2_SCL/USART3_TX/TIM2_CH3, 30 PB11/I2C2_SDA/USART3_RX/TIM2_CH4, 31 VSS, 32 VDD, 33 PB12/SPI2_NSS/I2C2_SMBAI/USART3_CK/TIM1_BKIN, 34 PB13/SPI2_SCK/USART3_CTS/TIM1_CH1N, 35 PB14/SPI2_MISO/USART3_RTS/TIM1_CH2N, 36 PB15/SPI2_MOSI/TIM1_CH3N, 37 PC6/TIM3_CH1, 38 PC7/TIM3_CH2, 39 PC8/TIM3_CH3, 40 PC9/TIM3_CH4, 41 PA8/USART1_CK/TIM1_CH1/MCO, 42 PA9/USART1_TX/TIM1_CH2, 43 PA10/USART1_RX/TIM1_CH3, 44 PA11/USART1_CTS/CANRX/USBDM/TIM1_CH4, 45 PA12/USART1_RTS/CANTX/USBDP/TIM1_ETR, 46 PA13/JTMS/SWDIO, 47 VSS, 48 VDD, 49 PA14/JTCK/SWCLK, 50 PA15/JTDI/TIM2_CH1_ETR/SPI1_NSS, 51 PC10/USART3_TX, 52 PC11/USART3_RX, 53 PC12/USART3_CK, 54 PD2, 55 PB3/JTDO/TIM2_CH2/TRACESWO/SPI1_SCK, 56 PB4/JNTRST/TIM3_CH1/SPI1_MISO, 57 PB5/I2C1_SMBAI/TIM3_CH2/SPI1_MOSI, 58 PB6/I2C1_SCL/TIM4_CH1/USART1_TX, 59 PB7/I2C1_SDA/TIM4_CH2/USART1_RX, 60 BOOT0, 61 PB8/TIM4_CH3/I2C1_SCL/CANRX, 62 PB9/TIM4_CH4/I2C1_SDA/CANTX, 63 VSS, 64 VDD

## STM32F103TB
designator U?
footprint QFN50P600X600X100_HS-37L (QFN, 36-Leads, Body 6.00x6.00mm, Pitch 0.50mm, Thermal Pad 3.90x3.90mm, IPC High Density)
pins: 1 VDD_3, 2 OSC_IN/PD0, 3 OSC_OUT/PD1, 4 NRST, 5 VSSA, 6 VDDA, 7 PA0/WKUP, 8 PA1, 9 PA2, 10 PA3, 11 PA4, 12 PA5, 13 PA6, 14 PA7, 15 PB0, 16 PB1, 17 PB2, 18 VSS_1, 19 VDD_1, 20 PA8, 21 PA9, 22 PA10, 23 PA11, 24 PA12, 25 PA13, 26 VSS_2, 27 VDD_2, 28 PA14, 29 PA15, 30 PB3, 31 PB4, 32 PB5, 33 PB6, 34 PB7, 35 BOOT0, 36 VSS_3

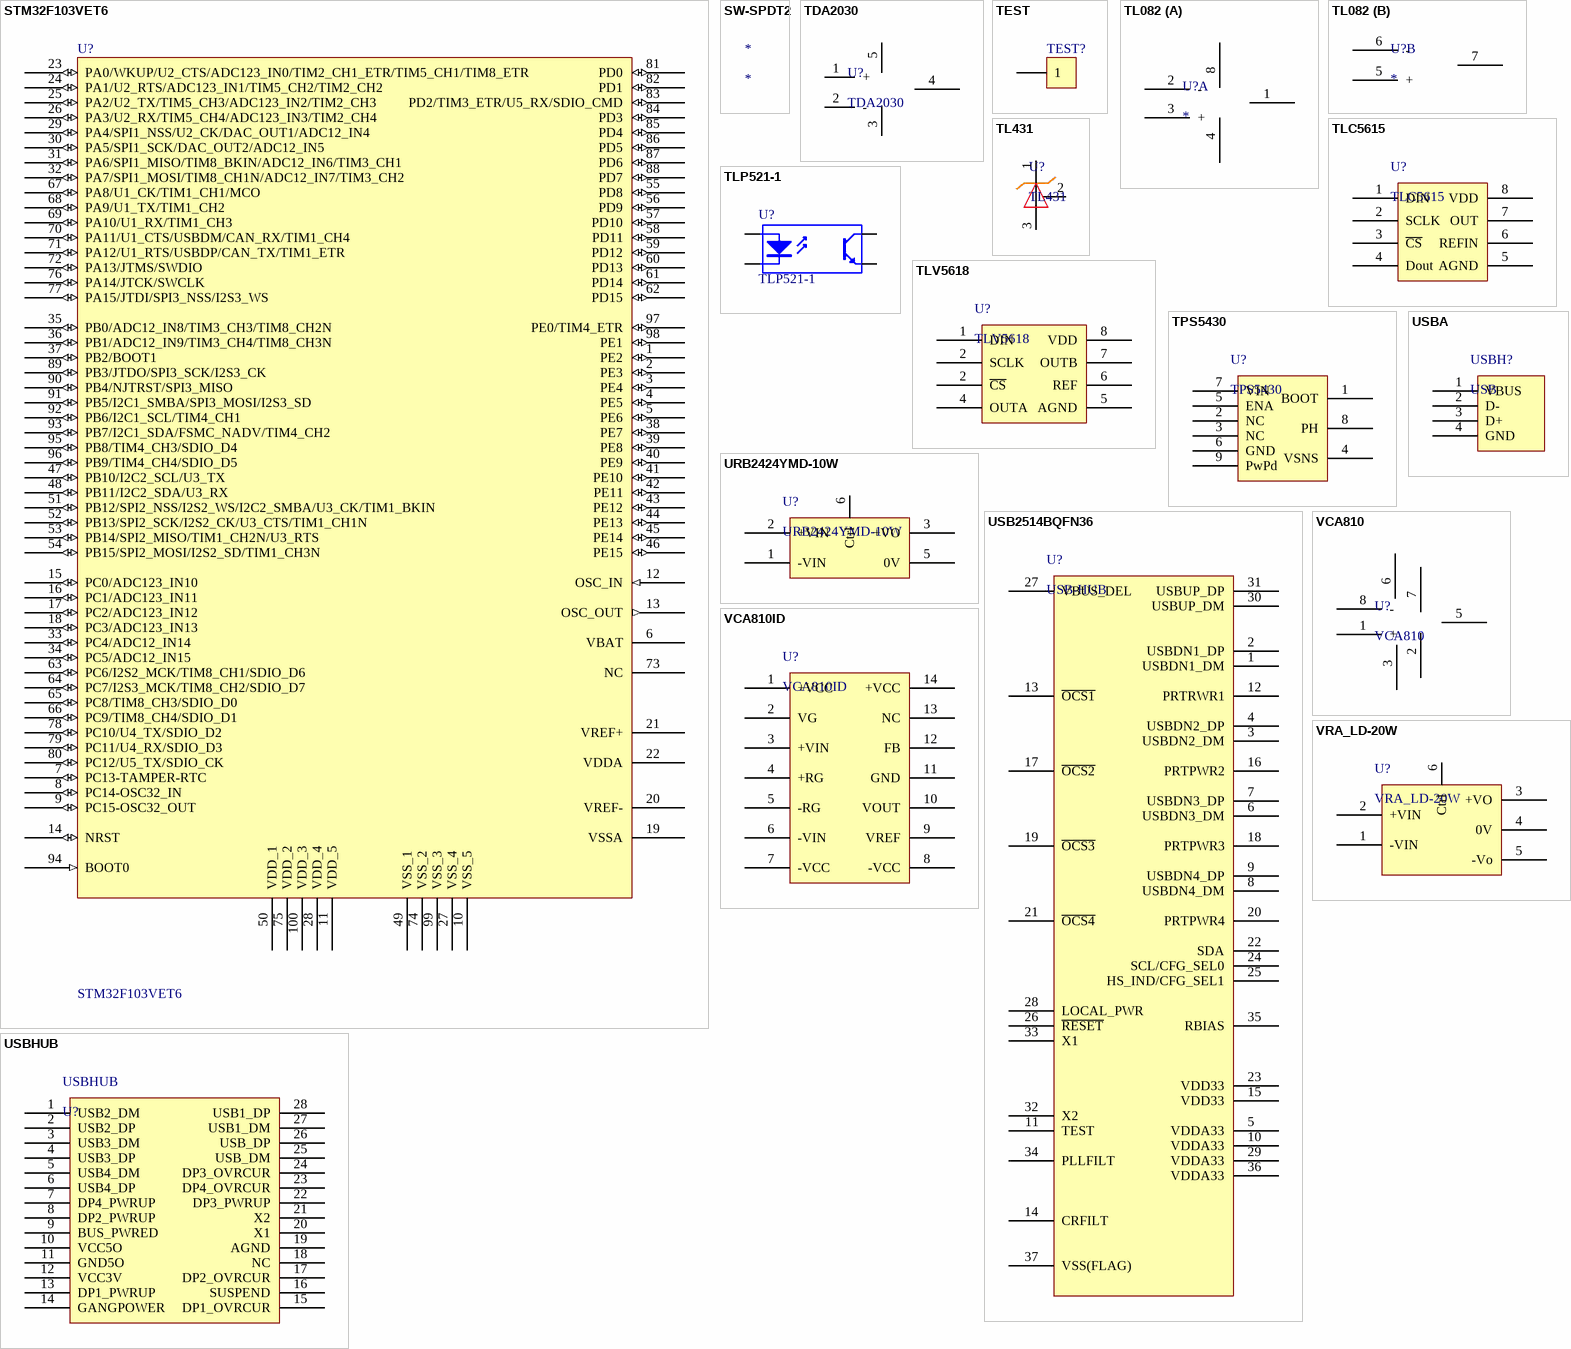
[diagram p5: symbols STM32F103VET6 to VRA_LD-20W]

## STM32F103VET6
designator U?
Published: *; DatasheetVersion: *; PackageVersion: *; PackageReference: *; Publisher: *; PackageDescription: *; ComponentLink1Description: *; ComponentLink1URL: *; ComponentLink2Description: *; ComponentLink2URL: *
footprint LQFP100_N
footprint LQFP100_L
footprint LQFP100_M
pins: 1 PE2 (io), 2 PE3 (io), 3 PE4 (io), 4 PE5 (io), 5 PE6 (io), 6 VBAT (power), 7 PC13-TAMPER-RTC (io), 8 PC14-OSC32_IN (io), 9 PC15-OSC32_OUT (io), 10 VSS_5 (power), 11 VDD_5 (power), 12 OSC_IN (in), 13 OSC_OUT (out), 14 NRST (io), 15 PC0/ADC123_IN10 (io), 16 PC1/ADC123_IN11 (io), 17 PC2/ADC123_IN12 (io), 18 PC3/ADC123_IN13 (io), 19 VSSA (power), 20 VREF- (power), 21 VREF+ (power), 22 VDDA (power), 23 PA0/WKUP/U2_CTS/ADC123_IN0/TIM2_CH1_ETR/TIM5_CH1/TIM8_ETR (io), 24 PA1/U2_RTS/ADC123_IN1/TIM5_CH2/TIM2_CH2 (io), 25 PA2/U2_TX/TIM5_CH3/ADC123_IN2/TIM2_CH3 (io), 26 PA3/U2_RX/TIM5_CH4/ADC123_IN3/TIM2_CH4 (io), 27 VSS_4 (power), 28 VDD_4 (power), 29 PA4/SPI1_NSS/U2_CK/DAC_OUT1/ADC12_IN4 (io), 30 PA5/SPI1_SCK/DAC_OUT2/ADC12_IN5 (io), 31 PA6/SPI1_MISO/TIM8_BKIN/ADC12_IN6/TIM3_CH1 (io), 32 PA7/SPI1_MOSI/TIM8_CH1N/ADC12_IN7/TIM3_CH2 (io), 33 PC4/ADC12_IN14 (io), 34 PC5/ADC12_IN15 (io), 35 PB0/ADC12_IN8/TIM3_CH3/TIM8_CH2N (io), 36 PB1/ADC12_IN9/TIM3_CH4/TIM8_CH3N (io), 37 PB2/BOOT1 (io), 38 PE7 (io), 39 PE8 (io), 40 PE9 (io), 41 PE10 (io), 42 PE11 (io), 43 PE12 (io), 44 PE13 (io), 45 PE14 (io), 46 PE15 (io), 47 PB10/I2C2_SCL/U3_TX (io), 48 PB11/I2C2_SDA/U3_RX (io), 49 VSS_1 (power), 50 VDD_1 (power), 51 PB12/SPI2_NSS/I2S2_WS/I2C2_SMBA/U3_CK/TIM1_BKIN (io), 52 PB13/SPI2_SCK/I2S2_CK/U3_CTS/TIM1_CH1N (io), 53 PB14/SPI2_MISO/TIM1_CH2N/U3_RTS (io), 54 PB15/SPI2_MOSI/I2S2_SD/TIM1_CH3N (io), 55 PD8 (io), 56 PD9 (io), 57 PD10 (io), 58 PD11 (io), 59 PD12 (io), 60 PD13 (io), 61 PD14 (io), 62 PD15 (io), 63 PC6/I2S2_MCK/TIM8_CH1/SDIO_D6 (io), 64 PC7/I2S3_MCK/TIM8_CH2/SDIO_D7 (io), 65 PC8/TIM8_CH3/SDIO_D0 (io), 66 PC9/TIM8_CH4/SDIO_D1 (io), 67 PA8/U1_CK/TIM1_CH1/MCO (io), 68 PA9/U1_TX/TIM1_CH2 (io), 69 PA10/U1_RX/TIM1_CH3 (io), 70 PA11/U1_CTS/USBDM/CAN_RX/TIM1_CH4 (io), 71 PA12/U1_RTS/USBDP/CAN_TX/TIM1_ETR (io), 72 PA13/JTMS/SWDIO (io), 73 NC, 74 VSS_2 (power), 75 VDD_2 (power), 76 PA14/JTCK/SWCLK (io), 77 PA15/JTDI/SPI3_NSS/I2S3_WS (io), 78 PC10/U4_TX/SDIO_D2 (io), 79 PC11/U4_RX/SDIO_D3 (io), 80 PC12/U5_TX/SDIO_CK (io), 81 PD0 (io), 82 PD1 (io), 83 PD2/TIM3_ETR/U5_RX/SDIO_CMD (io), 84 PD3 (io), 85 PD4 (io), 86 PD5 (io), 87 PD6 (io), 88 PD7 (io), 89 PB3/JTDO/SPI3_SCK/I2S3_CK (io), 90 PB4/NJTRST/SPI3_MISO (io), 91 PB5/I2C1_SMBA/SPI3_MOSI/I2S3_SD (io), 92 PB6/I2C1_SCL/TIM4_CH1 (io), 93 PB7/I2C1_SDA/FSMC_NADV/TIM4_CH2 (io), 94 BOOT0 (in), 95 PB8/TIM4_CH3/SDIO_D4 (io), 96 PB9/TIM4_CH4/SDIO_D5 (io), 97 PE0/TIM4_ETR (io), 98 PE1 (io), 99 VSS_3 (power), 100 VDD_3 (power)
2 alternate drawings of the same symbol

## SW-SPDT2
designator *
1 alternate drawing of the same symbol

## TDA2030
designator U?
pins: 1 +, 2 -, 3, 4, 5

## TEST
designator TEST?  (value not drawn)
Connector
footprint TEST
pins: 1
2 alternate drawings of the same symbol

## TL082
designator U?
part A pins: 1, 2 -, 3 +, 4, 8
part B pins: 5 +, 6 -, 7

## TL431
designator U?
pins: 1 C, 2 REF, 3 A

## TLC5615
designator U?
pins: 1 DIN, 2 SCLK, 3 ~{CS}, 4 Dout, 5 AGND, 6 REFIN, 7 OUT, 8 VDD

## TLP521-1
designator U?
footprint SOP4
pins: 1, 2, 3, 4

## TLV5618
designator U?
footprint DIP8
pins: 1 DIN, 2 SCLK, 2 ~{CS}, 4 OUTA, 5 AGND, 6 REF, 7 OUTB, 8 VDD

## TPS5430
designator U?
pins: 1 BOOT, 2 NC, 3 NC, 4 VSNS, 5 ENA, 6 GND, 7 VIN, 8 PH, 9 PwPd

## URB2424YMD-10W
designator U?
pins: 1 -VIN, 2 +VIN, 3 +VO, 5 0V, 6 Ctrl

## USB2514BQFN36
designator U?, comment USB-HUB
pins: 1 USBDN1_DM, 2 USBDN1_DP, 3 USBDN2_DM, 4 USBDN2_DP, 5 VDDA33, 6 USBDN3_DM, 7 USBDN3_DP, 8 USBDN4_DM, 9 USBDN4_DP, 10 VDDA33, 11 TEST, 12 PRTRWR1, 13 ~{OCS1}, 14 CRFILT, 15 VDD33, 16 PRTPWR2, 17 ~{OCS2}, 18 PRTPWR3, 19 ~{OCS3}, 20 PRTPWR4, 21 ~{OCS4}, 22 SDA, 23 VDD33, 24 SCL/CFG_SEL0, 25 HS_IND/CFG_SEL1, 26 ~{RESET}, 27 VBUS_DEL, 28 LOCAL_PWR, 29 VDDA33, 30 USBUP_DM, 31 USBUP_DP, 32 X2, 33 X1, 34 PLLFILT, 35 RBIAS, 36 VDDA33, 37 VSS(FLAG)

## USBA
designator USBH?, comment USB
pins: 1 VBUS, 2 D-, 3 D+, 4 GND

## USBHUB
designator USBHUB, comment U?
pins: 1 USB2_DM, 2 USB2_DP, 3 USB3_DM, 4 USB3_DP, 5 USB4_DM, 6 USB4_DP, 7 DP4_PWRUP, 8 DP2_PWRUP, 9 BUS_PWRED, 10 VCC5O, 11 GND5O, 12 VCC3V, 13 DP1_PWRUP, 14 GANGPOWER, 15 DP1_OVRCUR, 16 SUSPEND, 17 DP2_OVRCUR, 18 NC, 19 AGND, 20 X1, 21 X2, 22 DP3_PWRUP, 23 DP4_OVRCUR, 24 DP3_OVRCUR, 25 USB_DM, 26 USB_DP, 27 USB1_DM, 28 USB1_DP

## VCA810
designator U?
footprint DIP8
pins: 1 +, 2, 3, 5, 6, 7, 8 -

## VCA810ID
designator U?
footprint SO-14
pins: 1 +VCC, 2 VG, 3 +VIN, 4 +RG, 5 -RG, 6 -VIN, 7 -VCC, 8 -VCC, 9 VREF, 10 VOUT, 11 GND, 12 FB, 13 NC, 14 +VCC

## VRA_LD-20W
designator U?
pins: 1 -VIN, 2 +VIN, 3 +VO, 4 0V, 5 -Vo, 6 Ctrl

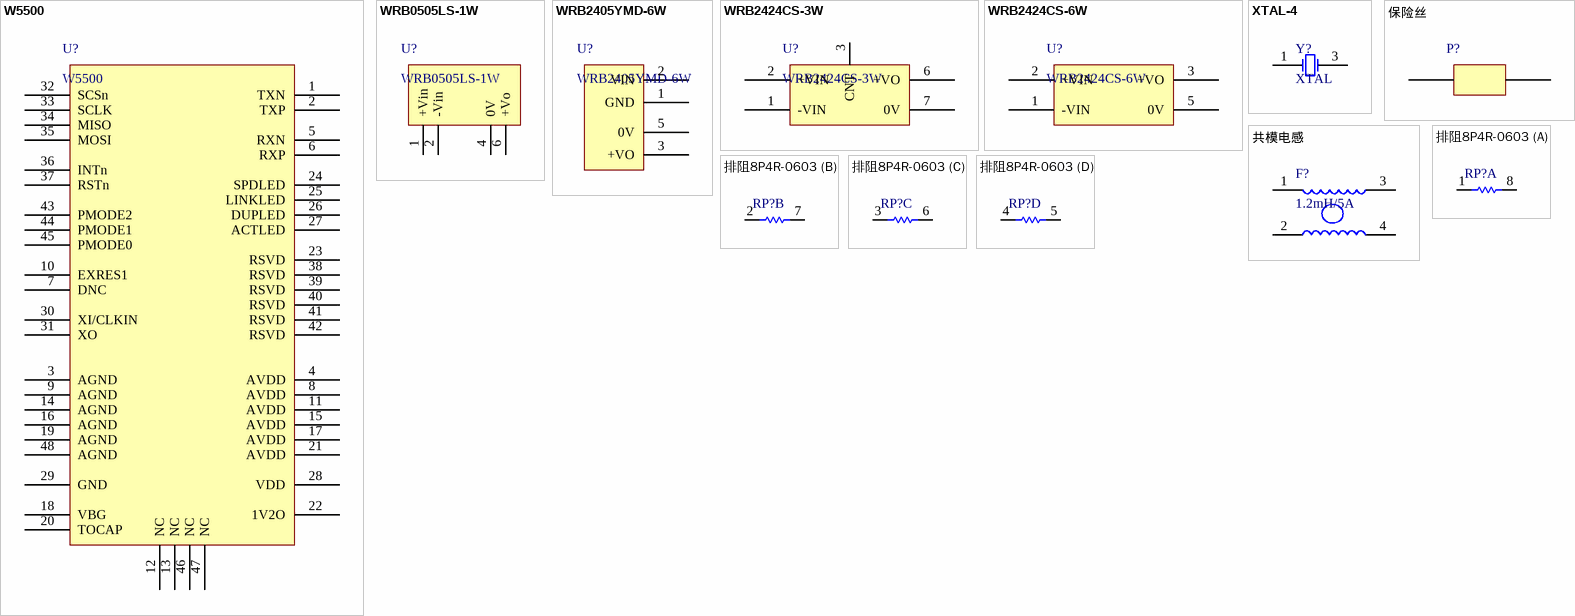
[diagram p6: symbols W5500 to 排阻8P4R-0603]

## W5500
designator U?
footprint LQFP48S (DPIN-0.5)
pins: 1 TXN, 2 TXP, 3 AGND, 4 AVDD, 5 RXN, 6 RXP, 7 DNC, 8 AVDD, 9 AGND, 10 EXRES1, 11 AVDD, 12 NC, 13 NC, 14 AGND, 15 AVDD, 16 AGND, 17 AVDD, 18 VBG, 19 AGND, 20 TOCAP, 21 AVDD, 22 1V2O, 23 RSVD, 24 SPDLED, 25 LINKLED, 26 DUPLED, 27 ACTLED, 28 VDD, 29 GND, 30 XI/CLKIN, 31 XO, 32 SCSn, 33 SCLK, 34 MISO, 35 MOSI, 36 INTn, 37 RSTn, 38 RSVD, 39 RSVD, 40 RSVD, 41 RSVD, 42 RSVD, 43 PMODE2, 44 PMODE1, 45 PMODE0, 46 NC, 47 NC, 48 AGND

## WRB0505LS-1W
designator U?
pins: 1 +Vin, 2 -Vin, 4 0V, 6 +Vo

## WRB2405YMD-6W
designator U?
pins: 1 GND, 2 VIN, 3 +VO, 5 0V

## WRB2424CS-3W
designator U?
pins: 1 -VIN, 2 +VIN, 3 CNT, 6 +VO, 7 0V

## WRB2424CS-6W
designator U?
pins: 1 -VIN, 2 +VIN, 3 +VO, 5 0V

## XTAL-4
designator Y?, comment XTAL
footprint 有源晶振
pins: 1 OSC1, 3 OSC2

## 保险丝
designator P?  (value not drawn)
pins: 1, 2

## 共模电感
designator F?, comment 1.2mH/5A
pins: 1, 2, 3, 4

## 排阻8P4R-0603
designator RP?, comment RP  (value not drawn)
footprint 8P4R_0603
part A pins: 1, 8
part B pins: 2, 7
part C pins: 3, 6
part D pins: 4, 5